# Altium schematic symbol library TSM2N7002KDCU6_RFG.SchLib: 1 symbol
Pins are listed as number, name and electrical type; pins without a type are passive.

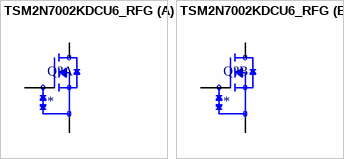
[diagram p0: symbol TSM2N7002KDCU6_RFG]

## TSM2N7002KDCU6_RFG
designator Q?
60V, 0.22A, Dual N-Channel Power MOSFET; MF: Taiwan Semiconductor; MP: TSM2N7002KDCU6 RFG; Value: *; Check_prices: https://www.snapeda.com/parts/TSM2N7002KDCU6%20RFG/Taiwan+Semiconductor/view-part/?ref=eda; Price: None; SnapEDA_Link: https://www.snapeda.com/parts/TSM2N7002KDCU6%20RFG/Taiwan+Semiconductor/view-part/?ref=snap; Availability: In Stock; Package: None
footprint SOT65P210X110-6N
part A pins: 1 S1, 2 G1, 6 D1
part B pins: 3 D2, 4 S2, 5 G2